# EAGLE library part LTC3642 (library PowerProducts)
LT-Spice library generated with : ltspice.ulp from: D:/Program Files (x86)/LTC/LTspiceIV/lib/sym/PowerProducts/LTC3670*.asy at 07.10.2012 18:27:56
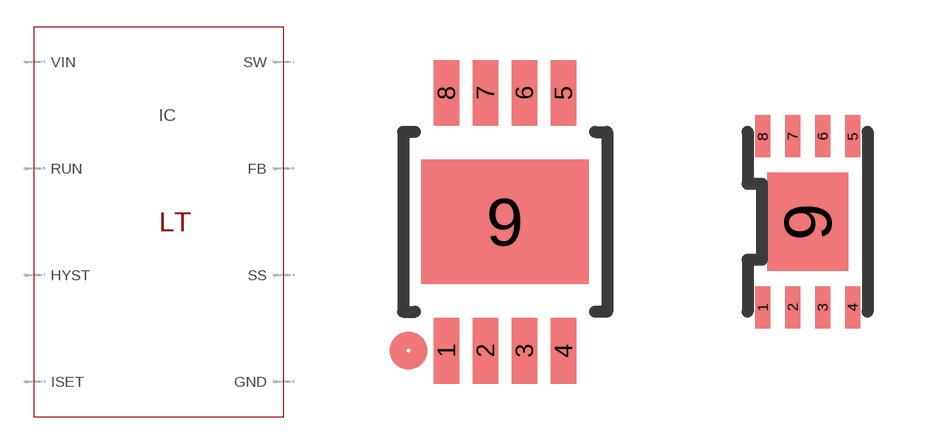
[diagram p275: symbol with the pads of MSOP8(MS8E); footprints MSOP8(MS8E), DFN8(DD)]

Designator prefix IC

## LTC3642MS8E (SPICEMODEL: LTC3642.sub; SPICEPREFIX: X; VALUE2: LTC3642)  [MSOP8(MS8E)]
1  SW  pas
2  VIN  pas
3  ISET  pas
4  SS  pas
5  RUN  pas
6  FB  pas
7  HYST  pas
8  GND  pas
9  GND  pas

## LTC3642 (SPICEMODEL: LTC3642.sub; SPICEPREFIX: X; VALUE2: LTC3642)  [DFN8(DD)]
Pads as for MSOP8(MS8E)

## Footprint MSOP8(MS8E) (pad centres in mm)
Package generated from: MSOP8(MS8E).asc (!PADS-POWERPCB-V9.3-BASIC! DESIGN DATABASE ASCII FILE 1.0) with :import-pads-powerpcb-v5.ulp Version 1.0.1 at 04.10.2012 14:11:20
smd 0.63 x 1.65: 1 -1.462,-3.225; 2 -0.487,-3.225; 3 0.487,-3.225; 4 1.462,-3.225; 5 1.462,3.225; 6 0.487,3.225; 7 -0.487,3.225; 8 -1.462,3.225
smd 4.191 x 3.124: 9 0,0

## Footprint DFN8(DD) (pad centres in mm)
Package generated from: DFN8(DD).asc (!PADS-POWERPCB-V5.0-BASIC! DESIGN DATABASE ASCII FILE 1.0) with :import-pads-powerpcb-v5.ulp Version 1.0.1 at 04.10.2012 14:11:17
smd 0.375 x 1.05: 1 -1.125,-2.138; 2 -0.375,-2.138; 3 0.375,-2.138; 4 1.125,-2.138; 5 1.125,2.138; 6 0.375,2.138; 7 -0.375,2.138; 8 -1.125,2.138
smd 2.025 x 2.475: 9 0,0